# Altium integrated library JTAG.IntLib: 1 symbol
Pins are listed as number, name and electrical type; pins without a type are passive.

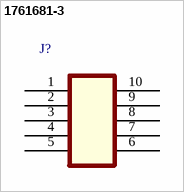
[diagram p0: symbol 1761681-3]

## 1761681-3
designator J?  (value not drawn)
IDC LOW PRO HDR 10P VERT HT BLACK; MF: hARWIN; MP: M50-3500542
footprint Harwin_Inc._M50-3500542_0
pins: 1, 2, 3, 4, 5, 6, 7, 8, 9, 10